# EAGLE library part L293DNE (library Common-Parts-Library-Eagle)
Logic - Buffers, Drivers, and Transceivers Quad Half-Hs
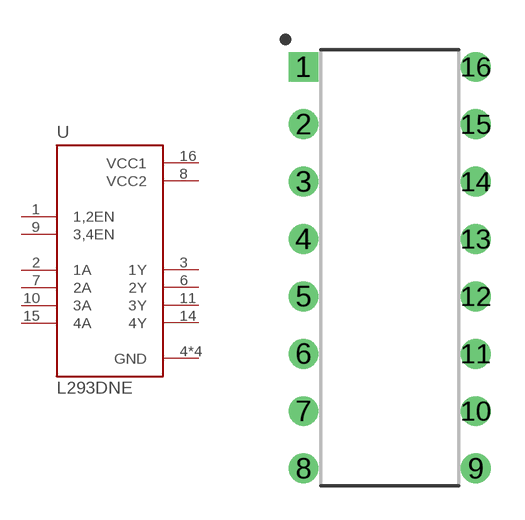
[diagram p40: symbol with the pads of DIP762W46P254L1931H508Q16B; footprint DIP762W46P254L1931H508Q16B]

Designator prefix U

## L293DNE (MANUFACTURER: Texas Instruments)  [DIP762W46P254L1931H508Q16B]
1  1,2EN  in
2  1A  in
3  1Y  out
4  GND  pas
5  GND  pas
6  2Y  out
7  2A  in
8  VCC2  pwr
9  3,4EN  in
10  3A  in
11  3Y  out
12  GND  pas
13  GND  pas
14  4Y  out
15  4A  in
16  VCC1  pwr

## Footprint DIP762W46P254L1931H508Q16B (pad centres in mm)
drill 0.813 square: 1 -3.81,8.89
drill 0.813: 2 -3.81,6.35; 3 -3.81,3.81; 4 -3.81,1.27; 5 -3.81,-1.27; 6 -3.81,-3.81; 7 -3.81,-6.35; 8 -3.81,-8.89; 9 3.81,-8.89; 10 3.81,-6.35; 11 3.81,-3.81; 12 3.81,-1.27; 13 3.81,1.27; 14 3.81,3.81; 15 3.81,6.35; 16 3.81,8.89